# EAGLE library part DSUB-9-FEMALE (library mbed-connectors)
DSUB-Connector female 9-pol
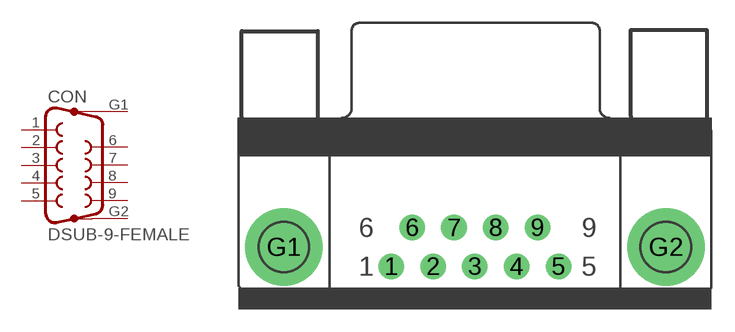
[diagram p3: symbol with the pads of DSUB-9-FEMALE; footprint DSUB-9-FEMALE]

Designator prefix CON

## DSUB-9-FEMALE  [DSUB-9-FEMALE]
1  1  pas
2  2  pas
3  3  pas
4  4  pas
5  5  pas
6  6  pas
7  7  pas
8  8  pas
9  9  pas
G1  G1  pas
G2  G2  pas

## Footprint DSUB-9-FEMALE (pad centres in mm)
DSUB Connector female 9-pol
drill 1.016 pad 1.676: 1 -5.486,-1.524; 2 -2.743,-1.524; 3 0,-1.524; 4 2.743,-1.524; 5 5.486,-1.524; 6 -4.115,1.016; 7 -1.372,1.016; 8 1.372,1.016; 9 4.115,1.016
drill 3.302 pad 5.08: G1 -12.522,-0.254; G2 12.522,-0.254